# EAGLE library part LM358 (library op-amp)
OP-AMP - Dual
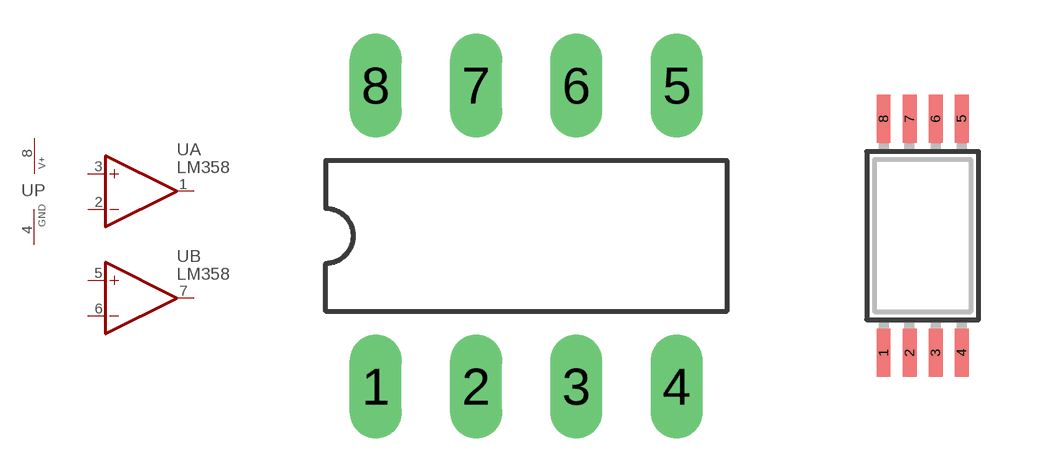
[diagram p59: symbol with the pads of DIL08; footprints DIL08, TSSOP8]

Designator prefix U; gates A=OPAMP_NV B=OPAMP_NV P=PWR+G

## LM358P (P1I: o)  [DIL08]
1  A:OUT  out
2  A:-IN  in
3  A:+IN  in
4  P:GND  pwr
5  B:+IN  in
6  B:-IN  in
7  B:OUT  out
8  P:V+  pwr

## LM358PW (P1I: o)  [TSSOP8]
Pads as for DIL08

## LM358D (DIGIKEY: 497-1591-1-ND; P1I: o)  [SO08]
Pads as for DIL08

## Footprint DIL08 (pad centres in mm)
Dual In Line Package
drill 0.813 long: 1 -3.81,-3.81; 2 -1.27,-3.81; 3 1.27,-3.81; 4 3.81,-3.81; 5 3.81,3.81; 6 1.27,3.81; 7 -1.27,3.81; 8 -3.81,3.81

## Footprint TSSOP8 (pad centres in mm)
Thin Shrink Small Outline Plastic 8 body 4.2 mm
smd 0.35 x 1.2: 1 -0.975,-2.925; 2 -0.325,-2.925; 3 0.325,-2.925; 4 0.975,-2.925; 5 0.975,2.925; 6 0.325,2.925; 7 -0.325,2.925; 8 -0.975,2.925

## Footprint SO08 (pad centres in mm)
SMALL OUTLINE INTEGRATED CIRCUIT body 3.9 mm/JEDEC MS-012AA
smd 0.6 x 2.2: 1 -1.905,-2.6; 2 -0.635,-2.6; 3 0.635,-2.6; 4 1.905,-2.6; 5 1.905,2.6; 6 0.635,2.6; 7 -0.635,2.6; 8 -1.905,2.6